# EAGLE library part AS3940QFN (library aurigaBot)
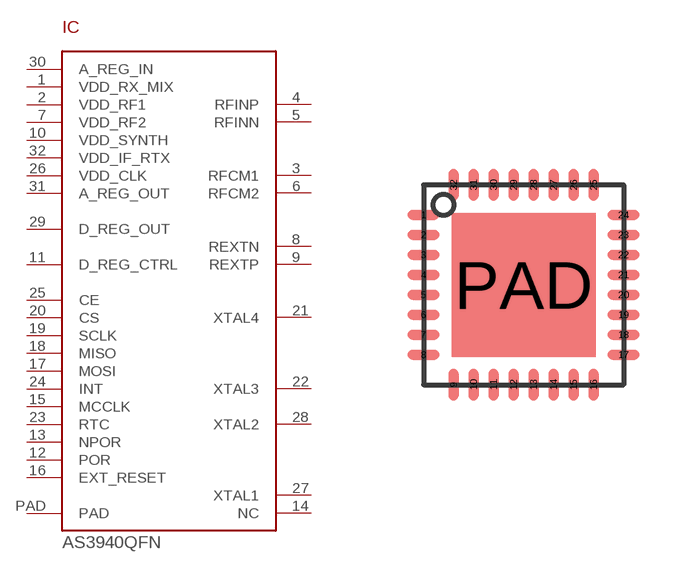
[diagram p1: symbol with the pads of QFN32; footprint QFN32]

Designator prefix IC

## AS3940QFN  [QFN32]
1  VDD_RX_MIX  pwr
2  VDD_RF1  pwr
3  RFCM1
4  RFINP
5  RFINN
6  RFCM2
7  VDD_RF2  pwr
8  REXTN
9  REXTP
10  VDD_SYNTH  pwr
11  D_REG_CTRL  pwr
12  POR  out
13  NPOR  out
14  NC  nc
15  MCCLK  out
16  EXT_RESET  in
17  MOSI  in
18  MISO  out
19  SCLK  in
20  CS  in
21  XTAL4
22  XTAL3
23  RTC  out
24  INT  out
25  CE  in
26  VDD_CLK  pwr
27  XTAL1
28  XTAL2
29  D_REG_OUT
30  A_REG_IN  pwr
31  A_REG_OUT
32  VDD_IF_RTX  pwr
PAD  PAD  pwr

## Footprint QFN32 (pad centres in mm)
smd 0.8 x 0.25: 1 -2.5,1.75; 2 -2.5,1.25; 3 -2.5,0.75; 4 -2.5,0.25; 5 -2.5,-0.25; 6 -2.5,-0.75; 7 -2.5,-1.25; 8 -2.5,-1.75; 17 2.5,-1.75; 18 2.5,-1.25; 19 2.5,-0.75; 20 2.5,-0.25; 21 2.5,0.25; 22 2.5,0.75; 23 2.5,1.25; 24 2.5,1.75
smd 0.25 x 0.8: 9 -1.75,-2.5; 10 -1.25,-2.5; 11 -0.75,-2.5; 12 -0.25,-2.5; 13 0.25,-2.5; 14 0.75,-2.5; 15 1.25,-2.5; 16 1.75,-2.5; 25 1.75,2.5; 26 1.25,2.5; 27 0.75,2.5; 28 0.25,2.5; 29 -0.25,2.5; 30 -0.75,2.5; 31 -1.25,2.5; 32 -1.75,2.5
smd 3.6 x 3.6: PAD 0,0